# EAGLE library part PI3USB102J (library ds_ic_peripherals)
USB 2.0 High-Speed (480Mbps) Switch with 5V Protection
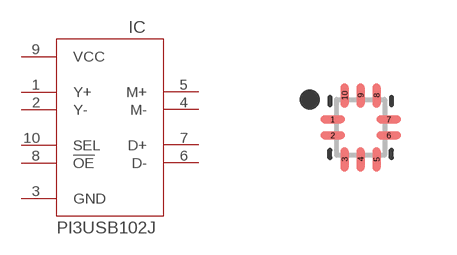
[diagram p61: symbol with the pads of QFN40P120X140X35-10N; footprint QFN40P120X140X35-10N]

Designator prefix IC

## PI3USB102JXUCEX (DATASHEET: https://www.diodes.com/assets/Datasheets/PI3USB102J.pdf; DESCRIPTION: USB 2.0 High-Speed (480Mbps) Switch with 5V Protection; MPN: PI3USB102JXUCEX; ROHS: YES; VALUE: PI3USB102J)  [QFN40P120X140X35-10N]
1  Y+
2  Y-
3  GND  pwr
4  M-
5  M+
6  D-
7  D+
8  !OE  in
9  VCC  pwr
10  SEL  in

## Footprint QFN40P120X140X35-10N (pad centres in mm)
10-QFN, 0.40 mm pitch, 1.20 X 1.40 X 0.35 mm body 10-pin QFN package with 0.40 mm pitch with body size 1.20 X 1.40 X 0.35 mm
smd 0.612 x 0.203: 1 -0.7,0.2; 2 -0.7,-0.2; 6 0.7,-0.2; 7 0.7,0.2
smd 0.203 x 0.612: 3 -0.4,-0.8; 4 0,-0.8; 5 0.4,-0.8; 8 0.4,0.8; 9 0,0.8; 10 -0.4,0.8